# Altium footprint library Button_Switch_THT.PcbLib: 106 footprints (part 3 of 7)
Each footprint in its own frame and in the unit in brackets; x right, y up, seen from the top. Pads: shape width x height; smd on the part's side, far side on the other; paste and mask are expansions set on the pad; w line width, h text height; cw(c..) or ccw(c..) is an arc to the next point about the centre after c.
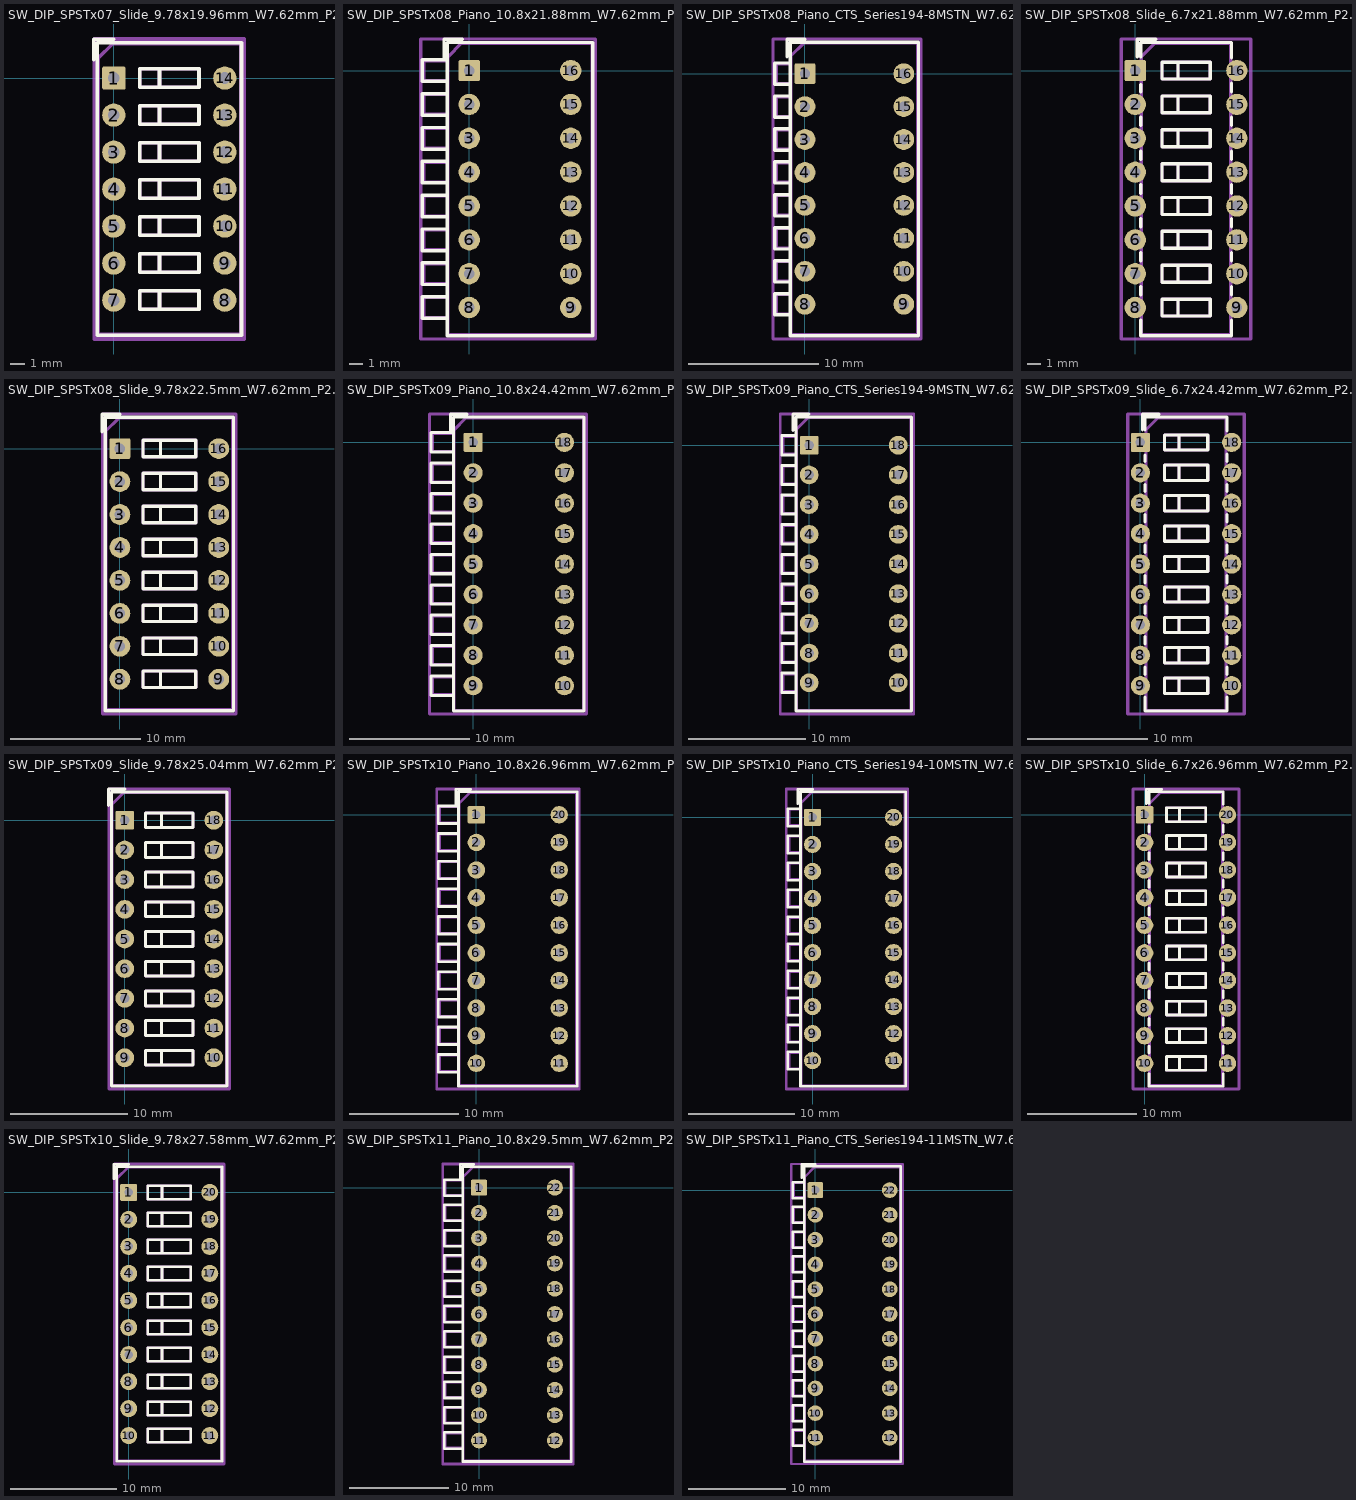
[diagram p2: the footprints below, top view; thin cyan lines are the x and y axes]

## SW_DIP_SPSTx07_Slide_9.78x19.96mm_W7.62mm_P2.54mm [mm]
pads (14):
  rrect16% 1.6x1.6 hole 0.8: 1(0,0)
  round 1.6 hole 0.8: 2(0,-2.54) 3(0,-5.08) 4(0,-7.62) 5(0,-10.16) 6(0,-12.7) 7(0,-15.24) 8(7.62,-15.24) 9(7.62,-12.7) 10(7.62,-10.16) 11(7.62,-7.62) 12(7.62,-5.08) 13(7.62,-2.54) 14(7.62,0)
F.SilkS:
  lines w0.254: -1.38,1.277 -1.38,2.66 0.003,2.66 ; 1.78,-15.875 1.78,-14.605 ; 1.78,-15.875 3.133,-15.875 ; 1.78,-15.875 1.78,-14.605 ; 1.78,-15.875 5.84,-15.875 5.84,-14.605 1.78,-14.605 ; 1.78,-14.605 3.133,-14.605 ; 1.78,-13.335 1.78,-12.065 ; 1.78,-13.335 3.133,-13.335 ; 1.78,-13.335 1.78,-12.065 ; 1.78,-13.335 5.84,-13.335 5.84,-12.065 1.78,-12.065 ; 1.78,-12.065 3.133,-12.065 ; 1.78,-10.795 1.78,-9.525 ; 1.78,-10.795 3.133,-10.795 ; 1.78,-10.795 1.78,-9.525 ; 1.78,-10.795 5.84,-10.795 5.84,-9.525 1.78,-9.525 ; 1.78,-9.525 3.133,-9.525 ; 1.78,-8.255 1.78,-6.985 ; 1.78,-8.255 3.133,-8.255 ; 1.78,-8.255 1.78,-6.985 ; 1.78,-8.255 5.84,-8.255 5.84,-6.985 1.78,-6.985 ; 1.78,-6.985 3.133,-6.985 ; 1.78,-5.715 1.78,-4.445 ; 1.78,-5.715 3.133,-5.715 ; 1.78,-5.715 1.78,-4.445 ; 1.78,-5.715 5.84,-5.715 5.84,-4.445 1.78,-4.445 ; 1.78,-4.445 3.133,-4.445 ; 1.78,-3.175 1.78,-1.905 ; 1.78,-3.175 3.133,-3.175 ; 1.78,-3.175 1.78,-1.905 ; 1.78,-3.175 5.84,-3.175 5.84,-1.905 1.78,-1.905 ; 1.78,-1.905 3.133,-1.905 ; 1.78,-0.635 1.78,0.635 ; 1.78,-0.635 3.133,-0.635 ; 1.78,-0.635 1.78,0.635 ; 1.78,-0.635 5.84,-0.635 5.84,0.635 1.78,0.635 ; 1.78,0.635 3.133,0.635 ; 3.133,-15.875 3.133,-14.605 ; 3.133,-15.875 3.133,-14.605 ; 3.133,-13.335 3.133,-12.065 ; 3.133,-13.335 3.133,-12.065 ; 3.133,-10.795 3.133,-9.525 ; 3.133,-10.795 3.133,-9.525 ; 3.133,-8.255 3.133,-6.985 ; 3.133,-8.255 3.133,-6.985 ; 3.133,-5.715 3.133,-4.445 ; 3.133,-5.715 3.133,-4.445 ; 3.133,-3.175 3.133,-1.905 ; 3.133,-3.175 3.133,-1.905 ; 3.133,-0.635 3.133,0.635 ; 3.133,-0.635 3.133,0.635 ; -1.14,-17.66 -1.14,2.42 8.76,2.42 8.76,-17.66 -1.14,-17.66
F.Fab:
  lines w0.254: 1.78,-15.875 1.78,-14.605 ; 1.78,-15.875 3.133,-15.875 ; 1.78,-15.875 1.78,-14.605 ; 1.78,-15.875 5.84,-15.875 5.84,-14.605 1.78,-14.605 ; 1.78,-14.605 3.133,-14.605 ; 1.78,-13.335 1.78,-12.065 ; 1.78,-13.335 3.133,-13.335 ; 1.78,-13.335 1.78,-12.065 ; 1.78,-13.335 5.84,-13.335 5.84,-12.065 1.78,-12.065 ; 1.78,-12.065 3.133,-12.065 ; 1.78,-10.795 1.78,-9.525 ; 1.78,-10.795 3.133,-10.795 ; 1.78,-10.795 1.78,-9.525 ; 1.78,-10.795 5.84,-10.795 5.84,-9.525 1.78,-9.525 ; 1.78,-9.525 3.133,-9.525 ; 1.78,-8.255 1.78,-6.985 ; 1.78,-8.255 3.133,-8.255 ; 1.78,-8.255 1.78,-6.985 ; 1.78,-8.255 5.84,-8.255 5.84,-6.985 1.78,-6.985 ; 1.78,-6.985 3.133,-6.985 ; 1.78,-5.715 1.78,-4.445 ; 1.78,-5.715 3.133,-5.715 ; 1.78,-5.715 1.78,-4.445 ; 1.78,-5.715 5.84,-5.715 5.84,-4.445 1.78,-4.445 ; 1.78,-4.445 3.133,-4.445 ; 1.78,-3.175 1.78,-1.905 ; 1.78,-3.175 3.133,-3.175 ; 1.78,-3.175 1.78,-1.905 ; 1.78,-3.175 5.84,-3.175 5.84,-1.905 1.78,-1.905 ; 1.78,-1.905 3.133,-1.905 ; 1.78,-0.635 1.78,0.635 ; 1.78,-0.635 3.133,-0.635 ; 1.78,-0.635 1.78,0.635 ; 1.78,-0.635 5.84,-0.635 5.84,0.635 1.78,0.635 ; 1.78,0.635 3.133,0.635 ; 3.133,-15.875 3.133,-14.605 ; 3.133,-15.875 3.133,-14.605 ; 3.133,-13.335 3.133,-12.065 ; 3.133,-13.335 3.133,-12.065 ; 3.133,-10.795 3.133,-9.525 ; 3.133,-10.795 3.133,-9.525 ; 3.133,-8.255 3.133,-6.985 ; 3.133,-8.255 3.133,-6.985 ; 3.133,-5.715 3.133,-4.445 ; 3.133,-5.715 3.133,-4.445 ; 3.133,-3.175 3.133,-1.905 ; 3.133,-3.175 3.133,-1.905 ; 3.133,-0.635 3.133,0.635 ; 3.133,-0.635 3.133,0.635 ; -1.08,-17.6 -1.08,1.36 -0.08,2.36 8.7,2.36 8.7,-17.6 -1.08,-17.6
  text "'.Designator'" at 7.942,-10.857 h0.8
  text "on" at 4.7,1.111 h0.8
F.CrtYd:
  lines w0.254: -1.33,-17.91 -1.33,2.68 8.95,2.68 8.95,-17.91 -1.33,-17.91

## SW_DIP_SPSTx08_Piano_10.8x21.88mm_W7.62mm_P2.54mm [mm]
pads (16):
  rrect16% 1.6x1.6 hole 0.8: 1(0,0)
  round 1.6 hole 0.8: 2(0,-2.54) 3(0,-5.08) 4(0,-7.62) 5(0,-10.16) 6(0,-12.7) 7(0,-15.24) 8(0,-17.78) 9(7.62,-17.78) 10(7.62,-15.24) 11(7.62,-12.7) 12(7.62,-10.16) 13(7.62,-7.62) 14(7.62,-5.08) 15(7.62,-2.54) 16(7.62,0)
F.SilkS:
  lines w0.254: -1.89,0.967 -1.89,2.35 -0.507,2.35 ; -3.51,-18.59 -3.51,-16.97 -1.65,-16.97 -1.65,-18.59 -3.51,-18.59 ; -3.51,-16.05 -3.51,-14.43 -1.65,-14.43 -1.65,-16.05 -3.51,-16.05 ; -3.51,-13.51 -3.51,-11.89 -1.65,-11.89 -1.65,-13.51 -3.51,-13.51 ; -3.51,-10.97 -3.51,-9.35 -1.65,-9.35 -1.65,-10.97 -3.51,-10.97 ; -3.51,-8.43 -3.51,-6.81 -1.65,-6.81 -1.65,-8.43 -3.51,-8.43 ; -3.51,-5.89 -3.51,-4.27 -1.65,-4.27 -1.65,-5.89 -3.51,-5.89 ; -3.51,-3.35 -3.51,-1.73 -1.65,-1.73 -1.65,-3.35 -3.51,-3.35 ; -3.51,-0.81 -3.51,0.81 -1.65,0.81 -1.65,-0.81 -3.51,-0.81 ; -1.65,-19.89 -1.65,2.11 9.27,2.11 9.27,-19.89 -1.65,-19.89
F.Fab:
  lines w0.254: -3.39,-18.53 -3.39,-17.03 -1.59,-17.03 -1.59,-18.53 -3.39,-18.53 ; -3.39,-15.99 -3.39,-14.49 -1.59,-14.49 -1.59,-15.99 -3.39,-15.99 ; -3.39,-13.45 -3.39,-11.95 -1.59,-11.95 -1.59,-13.45 -3.39,-13.45 ; -3.39,-10.91 -3.39,-9.41 -1.59,-9.41 -1.59,-10.91 -3.39,-10.91 ; -3.39,-8.37 -3.39,-6.87 -1.59,-6.87 -1.59,-8.37 -3.39,-8.37 ; -3.39,-5.83 -3.39,-4.33 -1.59,-4.33 -1.59,-5.83 -3.39,-5.83 ; -3.39,-3.29 -3.39,-1.79 -1.59,-1.79 -1.59,-3.29 -3.39,-3.29 ; -3.39,-0.75 -3.39,0.75 -1.59,0.75 -1.59,-0.75 -3.39,-0.75 ; -1.59,-19.83 -1.59,1.05 -0.59,2.05 9.21,2.05 9.21,-19.83 -1.59,-19.83
  text "'.Designator'" at 0.573,-9.562 h0.8
F.CrtYd:
  lines w0.254: -3.65,-20.14 -3.65,2.37 9.47,2.37 9.47,-20.14 -3.65,-20.14

## SW_DIP_SPSTx08_Piano_CTS_Series194-8MSTN_W7.62mm_P2.54mm [mm]
pads (16):
  rrect16% 1.6x1.6 hole 0.8: 1(0,0)
  round 1.6 hole 0.8: 2(0,-2.54) 3(0,-5.08) 4(0,-7.62) 5(0,-10.16) 6(0,-12.7) 7(0,-15.24) 8(0,-17.78) 9(7.62,-17.78) 10(7.62,-15.24) 11(7.62,-12.7) 12(7.62,-10.16) 13(7.62,-7.62) 14(7.62,-5.08) 15(7.62,-2.54) 16(7.62,0)
F.SilkS:
  lines w0.254: -1.38,1.277 -1.38,2.66 0.003,2.66 ; -2.34,-18.6 -2.34,-16.96 -1.14,-16.96 -1.14,-18.6 -2.34,-18.6 ; -2.34,-16.06 -2.34,-14.42 -1.14,-14.42 -1.14,-16.06 -2.34,-16.06 ; -2.34,-13.52 -2.34,-11.88 -1.14,-11.88 -1.14,-13.52 -2.34,-13.52 ; -2.34,-10.98 -2.34,-9.34 -1.14,-9.34 -1.14,-10.98 -2.34,-10.98 ; -2.34,-8.44 -2.34,-6.8 -1.14,-6.8 -1.14,-8.44 -2.34,-8.44 ; -2.34,-5.9 -2.34,-4.26 -1.14,-4.26 -1.14,-5.9 -2.34,-5.9 ; -2.34,-3.36 -2.34,-1.72 -1.14,-1.72 -1.14,-3.36 -2.34,-3.36 ; -2.34,-0.82 -2.34,0.82 -1.14,0.82 -1.14,-0.82 -2.34,-0.82 ; -1.14,-20.2 -1.14,2.42 8.76,2.42 8.76,-20.2 -1.14,-20.2
F.Fab:
  lines w0.254: -2.22,-18.54 -2.22,-17.02 -1.08,-17.02 -1.08,-18.54 -2.22,-18.54 ; -2.22,-16 -2.22,-14.48 -1.08,-14.48 -1.08,-16 -2.22,-16 ; -2.22,-13.46 -2.22,-11.94 -1.08,-11.94 -1.08,-13.46 -2.22,-13.46 ; -2.22,-10.92 -2.22,-9.4 -1.08,-9.4 -1.08,-10.92 -2.22,-10.92 ; -2.22,-8.38 -2.22,-6.86 -1.08,-6.86 -1.08,-8.38 -2.22,-8.38 ; -2.22,-5.84 -2.22,-4.32 -1.08,-4.32 -1.08,-5.84 -2.22,-5.84 ; -2.22,-3.3 -2.22,-1.78 -1.08,-1.78 -1.08,-3.3 -2.22,-3.3 ; -2.22,-0.76 -2.22,0.76 -1.08,0.76 -1.08,-0.76 -2.22,-0.76 ; -1.08,-20.14 -1.08,1.36 -0.08,2.36 8.7,2.36 8.7,-20.14 -1.08,-20.14
  text "'.Designator'" at 0.573,-9.562 h0.8
F.CrtYd:
  lines w0.254: -2.47,-20.46 -2.47,2.67 8.95,2.67 8.95,-20.46 -2.47,-20.46

## SW_DIP_SPSTx08_Slide_6.7x21.88mm_W7.62mm_P2.54mm_LowProfile [mm]
pads (16):
  rrect16% 1.6x1.6 hole 0.8: 1(0,0)
  round 1.6 hole 0.8: 2(0,-2.54) 3(0,-5.08) 4(0,-7.62) 5(0,-10.16) 6(0,-12.7) 7(0,-15.24) 8(0,-17.78) 9(7.62,-17.78) 10(7.62,-15.24) 11(7.62,-12.7) 12(7.62,-10.16) 13(7.62,-7.62) 14(7.62,-5.08) 15(7.62,-2.54) 16(7.62,0)
F.SilkS:
  lines w0.254: 0.16,1.04 0.16,2.35 1.543,2.35 ; 0.4,-18.74 0.4,-19.89 7.22,-19.89 7.22,-18.74 ; 0.4,-16.82 0.4,-16.2 ; 0.4,-14.28 0.4,-13.66 ; 0.4,-11.74 0.4,-11.12 ; 0.4,-9.2 0.4,-8.58 ; 0.4,-6.66 0.4,-6.04 ; 0.4,-4.12 0.4,-3.5 ; 0.4,-1.58 0.4,-1.04 ; 0.4,1.04 0.4,2.11 7.22,2.11 7.22,0.96 ; 7.22,-16.82 7.22,-16.2 ; 7.22,-14.28 7.22,-13.66 ; 7.22,-11.74 7.22,-11.12 ; 7.22,-9.2 7.22,-8.58 ; 7.22,-6.66 7.22,-6.04 ; 7.22,-4.12 7.22,-3.5 ; 7.22,-1.58 7.22,-0.96 ; 2,-18.415 2,-17.145 ; 2,-18.415 3.207,-18.415 ; 2,-18.415 2,-17.145 ; 2,-18.415 5.62,-18.415 5.62,-17.145 2,-17.145 ; 2,-17.145 3.207,-17.145 ; 2,-15.875 2,-14.605 ; 2,-15.875 3.207,-15.875 ; 2,-15.875 2,-14.605 ; 2,-15.875 5.62,-15.875 5.62,-14.605 2,-14.605 ; 2,-14.605 3.207,-14.605 ; 2,-13.335 2,-12.065 ; 2,-13.335 3.207,-13.335 ; 2,-13.335 2,-12.065 ; 2,-13.335 5.62,-13.335 5.62,-12.065 2,-12.065 ; 2,-12.065 3.207,-12.065 ; 2,-10.795 2,-9.525 ; 2,-10.795 3.207,-10.795 ; 2,-10.795 2,-9.525 ; 2,-10.795 5.62,-10.795 5.62,-9.525 2,-9.525 ; 2,-9.525 3.207,-9.525 ; 2,-8.255 2,-6.985 ; 2,-8.255 3.207,-8.255 ; 2,-8.255 2,-6.985 ; 2,-8.255 5.62,-8.255 5.62,-6.985 2,-6.985 ; 2,-6.985 3.207,-6.985 ; 2,-5.715 2,-4.445 ; 2,-5.715 3.207,-5.715 ; 2,-5.715 2,-4.445 ; 2,-5.715 5.62,-5.715 5.62,-4.445 2,-4.445 ; 2,-4.445 3.207,-4.445 ; 2,-3.175 2,-1.905 ; 2,-3.175 3.207,-3.175 ; 2,-3.175 2,-1.905 ; 2,-3.175 5.62,-3.175 5.62,-1.905 2,-1.905 ; 2,-1.905 3.207,-1.905 ; 2,-0.635 2,0.635 ; 2,-0.635 3.207,-0.635 ; 2,-0.635 2,0.635 ; 2,-0.635 5.62,-0.635 5.62,0.635 2,0.635 ; 2,0.635 3.207,0.635 ; 3.207,-18.415 3.207,-17.145 ; 3.207,-18.415 3.207,-17.145 ; 3.207,-15.875 3.207,-14.605 ; 3.207,-15.875 3.207,-14.605 ; 3.207,-13.335 3.207,-12.065 ; 3.207,-13.335 3.207,-12.065 ; 3.207,-10.795 3.207,-9.525 ; 3.207,-10.795 3.207,-9.525 ; 3.207,-8.255 3.207,-6.985 ; 3.207,-8.255 3.207,-6.985 ; 3.207,-5.715 3.207,-4.445 ; 3.207,-5.715 3.207,-4.445 ; 3.207,-3.175 3.207,-1.905 ; 3.207,-3.175 3.207,-1.905 ; 3.207,-0.635 3.207,0.635 ; 3.207,-0.635 3.207,0.635
F.Fab:
  lines w0.254: 2,-18.415 2,-17.145 ; 2,-18.415 3.207,-18.415 ; 2,-18.415 2,-17.145 ; 2,-18.415 5.62,-18.415 5.62,-17.145 2,-17.145 ; 2,-17.145 3.207,-17.145 ; 2,-15.875 2,-14.605 ; 2,-15.875 3.207,-15.875 ; 2,-15.875 2,-14.605 ; 2,-15.875 5.62,-15.875 5.62,-14.605 2,-14.605 ; 2,-14.605 3.207,-14.605 ; 2,-13.335 2,-12.065 ; 2,-13.335 3.207,-13.335 ; 2,-13.335 2,-12.065 ; 2,-13.335 5.62,-13.335 5.62,-12.065 2,-12.065 ; 2,-12.065 3.207,-12.065 ; 2,-10.795 2,-9.525 ; 2,-10.795 3.207,-10.795 ; 2,-10.795 2,-9.525 ; 2,-10.795 5.62,-10.795 5.62,-9.525 2,-9.525 ; 2,-9.525 3.207,-9.525 ; 2,-8.255 2,-6.985 ; 2,-8.255 3.207,-8.255 ; 2,-8.255 2,-6.985 ; 2,-8.255 5.62,-8.255 5.62,-6.985 2,-6.985 ; 2,-6.985 3.207,-6.985 ; 2,-5.715 2,-4.445 ; 2,-5.715 3.207,-5.715 ; 2,-5.715 2,-4.445 ; 2,-5.715 5.62,-5.715 5.62,-4.445 2,-4.445 ; 2,-4.445 3.207,-4.445 ; 2,-3.175 2,-1.905 ; 2,-3.175 3.207,-3.175 ; 2,-3.175 2,-1.905 ; 2,-3.175 5.62,-3.175 5.62,-1.905 2,-1.905 ; 2,-1.905 3.207,-1.905 ; 2,-0.635 2,0.635 ; 2,-0.635 3.207,-0.635 ; 2,-0.635 2,0.635 ; 2,-0.635 5.62,-0.635 5.62,0.635 2,0.635 ; 2,0.635 3.207,0.635 ; 3.207,-18.415 3.207,-17.145 ; 3.207,-18.415 3.207,-17.145 ; 3.207,-15.875 3.207,-14.605 ; 3.207,-15.875 3.207,-14.605 ; 3.207,-13.335 3.207,-12.065 ; 3.207,-13.335 3.207,-12.065 ; 3.207,-10.795 3.207,-9.525 ; 3.207,-10.795 3.207,-9.525 ; 3.207,-8.255 3.207,-6.985 ; 3.207,-8.255 3.207,-6.985 ; 3.207,-5.715 3.207,-4.445 ; 3.207,-5.715 3.207,-4.445 ; 3.207,-3.175 3.207,-1.905 ; 3.207,-3.175 3.207,-1.905 ; 3.207,-0.635 3.207,0.635 ; 3.207,-0.635 3.207,0.635 ; 0.46,-19.83 0.46,1.05 1.46,2.05 7.16,2.05 7.16,-19.83 0.46,-19.83
  text "'.Designator'" at 7.062,-12.127 h0.8
  text "on" at 3.82,0.956 h0.8
F.CrtYd:
  lines w0.254: -1.06,-20.14 -1.06,2.37 8.67,2.37 8.67,-20.14 -1.06,-20.14

## SW_DIP_SPSTx08_Slide_9.78x22.5mm_W7.62mm_P2.54mm [mm]
pads (16):
  rrect16% 1.6x1.6 hole 0.8: 1(0,0)
  round 1.6 hole 0.8: 2(0,-2.54) 3(0,-5.08) 4(0,-7.62) 5(0,-10.16) 6(0,-12.7) 7(0,-15.24) 8(0,-17.78) 9(7.62,-17.78) 10(7.62,-15.24) 11(7.62,-12.7) 12(7.62,-10.16) 13(7.62,-7.62) 14(7.62,-5.08) 15(7.62,-2.54) 16(7.62,0)
F.SilkS:
  lines w0.254: -1.38,1.277 -1.38,2.66 0.003,2.66 ; 1.78,-18.415 1.78,-17.145 ; 1.78,-18.415 3.133,-18.415 ; 1.78,-18.415 1.78,-17.145 ; 1.78,-18.415 5.84,-18.415 5.84,-17.145 1.78,-17.145 ; 1.78,-17.145 3.133,-17.145 ; 1.78,-15.875 1.78,-14.605 ; 1.78,-15.875 3.133,-15.875 ; 1.78,-15.875 1.78,-14.605 ; 1.78,-15.875 5.84,-15.875 5.84,-14.605 1.78,-14.605 ; 1.78,-14.605 3.133,-14.605 ; 1.78,-13.335 1.78,-12.065 ; 1.78,-13.335 3.133,-13.335 ; 1.78,-13.335 1.78,-12.065 ; 1.78,-13.335 5.84,-13.335 5.84,-12.065 1.78,-12.065 ; 1.78,-12.065 3.133,-12.065 ; 1.78,-10.795 1.78,-9.525 ; 1.78,-10.795 3.133,-10.795 ; 1.78,-10.795 1.78,-9.525 ; 1.78,-10.795 5.84,-10.795 5.84,-9.525 1.78,-9.525 ; 1.78,-9.525 3.133,-9.525 ; 1.78,-8.255 1.78,-6.985 ; 1.78,-8.255 3.133,-8.255 ; 1.78,-8.255 1.78,-6.985 ; 1.78,-8.255 5.84,-8.255 5.84,-6.985 1.78,-6.985 ; 1.78,-6.985 3.133,-6.985 ; 1.78,-5.715 1.78,-4.445 ; 1.78,-5.715 3.133,-5.715 ; 1.78,-5.715 1.78,-4.445 ; 1.78,-5.715 5.84,-5.715 5.84,-4.445 1.78,-4.445 ; 1.78,-4.445 3.133,-4.445 ; 1.78,-3.175 1.78,-1.905 ; 1.78,-3.175 3.133,-3.175 ; 1.78,-3.175 1.78,-1.905 ; 1.78,-3.175 5.84,-3.175 5.84,-1.905 1.78,-1.905 ; 1.78,-1.905 3.133,-1.905 ; 1.78,-0.635 1.78,0.635 ; 1.78,-0.635 3.133,-0.635 ; 1.78,-0.635 1.78,0.635 ; 1.78,-0.635 5.84,-0.635 5.84,0.635 1.78,0.635 ; 1.78,0.635 3.133,0.635 ; 3.133,-18.415 3.133,-17.145 ; 3.133,-18.415 3.133,-17.145 ; 3.133,-15.875 3.133,-14.605 ; 3.133,-15.875 3.133,-14.605 ; 3.133,-13.335 3.133,-12.065 ; 3.133,-13.335 3.133,-12.065 ; 3.133,-10.795 3.133,-9.525 ; 3.133,-10.795 3.133,-9.525 ; 3.133,-8.255 3.133,-6.985 ; 3.133,-8.255 3.133,-6.985 ; 3.133,-5.715 3.133,-4.445 ; 3.133,-5.715 3.133,-4.445 ; 3.133,-3.175 3.133,-1.905 ; 3.133,-3.175 3.133,-1.905 ; 3.133,-0.635 3.133,0.635 ; 3.133,-0.635 3.133,0.635 ; -1.14,-20.2 -1.14,2.42 8.76,2.42 8.76,-20.2 -1.14,-20.2
F.Fab:
  lines w0.254: 1.78,-18.415 1.78,-17.145 ; 1.78,-18.415 3.133,-18.415 ; 1.78,-18.415 1.78,-17.145 ; 1.78,-18.415 5.84,-18.415 5.84,-17.145 1.78,-17.145 ; 1.78,-17.145 3.133,-17.145 ; 1.78,-15.875 1.78,-14.605 ; 1.78,-15.875 3.133,-15.875 ; 1.78,-15.875 1.78,-14.605 ; 1.78,-15.875 5.84,-15.875 5.84,-14.605 1.78,-14.605 ; 1.78,-14.605 3.133,-14.605 ; 1.78,-13.335 1.78,-12.065 ; 1.78,-13.335 3.133,-13.335 ; 1.78,-13.335 1.78,-12.065 ; 1.78,-13.335 5.84,-13.335 5.84,-12.065 1.78,-12.065 ; 1.78,-12.065 3.133,-12.065 ; 1.78,-10.795 1.78,-9.525 ; 1.78,-10.795 3.133,-10.795 ; 1.78,-10.795 1.78,-9.525 ; 1.78,-10.795 5.84,-10.795 5.84,-9.525 1.78,-9.525 ; 1.78,-9.525 3.133,-9.525 ; 1.78,-8.255 1.78,-6.985 ; 1.78,-8.255 3.133,-8.255 ; 1.78,-8.255 1.78,-6.985 ; 1.78,-8.255 5.84,-8.255 5.84,-6.985 1.78,-6.985 ; 1.78,-6.985 3.133,-6.985 ; 1.78,-5.715 1.78,-4.445 ; 1.78,-5.715 3.133,-5.715 ; 1.78,-5.715 1.78,-4.445 ; 1.78,-5.715 5.84,-5.715 5.84,-4.445 1.78,-4.445 ; 1.78,-4.445 3.133,-4.445 ; 1.78,-3.175 1.78,-1.905 ; 1.78,-3.175 3.133,-3.175 ; 1.78,-3.175 1.78,-1.905 ; 1.78,-3.175 5.84,-3.175 5.84,-1.905 1.78,-1.905 ; 1.78,-1.905 3.133,-1.905 ; 1.78,-0.635 1.78,0.635 ; 1.78,-0.635 3.133,-0.635 ; 1.78,-0.635 1.78,0.635 ; 1.78,-0.635 5.84,-0.635 5.84,0.635 1.78,0.635 ; 1.78,0.635 3.133,0.635 ; 3.133,-18.415 3.133,-17.145 ; 3.133,-18.415 3.133,-17.145 ; 3.133,-15.875 3.133,-14.605 ; 3.133,-15.875 3.133,-14.605 ; 3.133,-13.335 3.133,-12.065 ; 3.133,-13.335 3.133,-12.065 ; 3.133,-10.795 3.133,-9.525 ; 3.133,-10.795 3.133,-9.525 ; 3.133,-8.255 3.133,-6.985 ; 3.133,-8.255 3.133,-6.985 ; 3.133,-5.715 3.133,-4.445 ; 3.133,-5.715 3.133,-4.445 ; 3.133,-3.175 3.133,-1.905 ; 3.133,-3.175 3.133,-1.905 ; 3.133,-0.635 3.133,0.635 ; 3.133,-0.635 3.133,0.635 ; -1.08,-20.14 -1.08,1.36 -0.08,2.36 8.7,2.36 8.7,-20.14 -1.08,-20.14
  text "'.Designator'" at 7.942,-12.127 h0.8
  text "on" at 4.7,1.111 h0.8
F.CrtYd:
  lines w0.254: -1.33,-20.46 -1.33,2.67 8.95,2.67 8.95,-20.46 -1.33,-20.46

## SW_DIP_SPSTx09_Piano_10.8x24.42mm_W7.62mm_P2.54mm [mm]
pads (18):
  rrect16% 1.6x1.6 hole 0.8: 1(0,0)
  round 1.6 hole 0.8: 2(0,-2.54) 3(0,-5.08) 4(0,-7.62) 5(0,-10.16) 6(0,-12.7) 7(0,-15.24) 8(0,-17.78) 9(0,-20.32) 10(7.62,-20.32) 11(7.62,-17.78) 12(7.62,-15.24) 13(7.62,-12.7) 14(7.62,-10.16) 15(7.62,-7.62) 16(7.62,-5.08) 17(7.62,-2.54) 18(7.62,0)
F.SilkS:
  lines w0.254: -1.89,0.967 -1.89,2.35 -0.507,2.35 ; -3.51,-21.13 -3.51,-19.51 -1.65,-19.51 -1.65,-21.13 -3.51,-21.13 ; -3.51,-18.59 -3.51,-16.97 -1.65,-16.97 -1.65,-18.59 -3.51,-18.59 ; -3.51,-16.05 -3.51,-14.43 -1.65,-14.43 -1.65,-16.05 -3.51,-16.05 ; -3.51,-13.51 -3.51,-11.89 -1.65,-11.89 -1.65,-13.51 -3.51,-13.51 ; -3.51,-10.97 -3.51,-9.35 -1.65,-9.35 -1.65,-10.97 -3.51,-10.97 ; -3.51,-8.43 -3.51,-6.81 -1.65,-6.81 -1.65,-8.43 -3.51,-8.43 ; -3.51,-5.89 -3.51,-4.27 -1.65,-4.27 -1.65,-5.89 -3.51,-5.89 ; -3.51,-3.35 -3.51,-1.73 -1.65,-1.73 -1.65,-3.35 -3.51,-3.35 ; -3.51,-0.81 -3.51,0.81 -1.65,0.81 -1.65,-0.81 -3.51,-0.81 ; -1.65,-22.43 -1.65,2.11 9.27,2.11 9.27,-22.43 -1.65,-22.43
F.Fab:
  lines w0.254: -3.39,-21.07 -3.39,-19.57 -1.59,-19.57 -1.59,-21.07 -3.39,-21.07 ; -3.39,-18.53 -3.39,-17.03 -1.59,-17.03 -1.59,-18.53 -3.39,-18.53 ; -3.39,-15.99 -3.39,-14.49 -1.59,-14.49 -1.59,-15.99 -3.39,-15.99 ; -3.39,-13.45 -3.39,-11.95 -1.59,-11.95 -1.59,-13.45 -3.39,-13.45 ; -3.39,-10.91 -3.39,-9.41 -1.59,-9.41 -1.59,-10.91 -3.39,-10.91 ; -3.39,-8.37 -3.39,-6.87 -1.59,-6.87 -1.59,-8.37 -3.39,-8.37 ; -3.39,-5.83 -3.39,-4.33 -1.59,-4.33 -1.59,-5.83 -3.39,-5.83 ; -3.39,-3.29 -3.39,-1.79 -1.59,-1.79 -1.59,-3.29 -3.39,-3.29 ; -3.39,-0.75 -3.39,0.75 -1.59,0.75 -1.59,-0.75 -3.39,-0.75 ; -1.59,-22.37 -1.59,1.05 -0.59,2.05 9.21,2.05 9.21,-22.37 -1.59,-22.37
  text "'.Designator'" at 0.573,-10.832 h0.8
F.CrtYd:
  lines w0.254: -3.65,-22.68 -3.65,2.37 9.47,2.37 9.47,-22.68 -3.65,-22.68

## SW_DIP_SPSTx09_Piano_CTS_Series194-9MSTN_W7.62mm_P2.54mm [mm]
pads (18):
  rrect16% 1.6x1.6 hole 0.8: 1(0,0)
  round 1.6 hole 0.8: 2(0,-2.54) 3(0,-5.08) 4(0,-7.62) 5(0,-10.16) 6(0,-12.7) 7(0,-15.24) 8(0,-17.78) 9(0,-20.32) 10(7.62,-20.32) 11(7.62,-17.78) 12(7.62,-15.24) 13(7.62,-12.7) 14(7.62,-10.16) 15(7.62,-7.62) 16(7.62,-5.08) 17(7.62,-2.54) 18(7.62,0)
F.SilkS:
  lines w0.254: -1.38,1.277 -1.38,2.66 0.003,2.66 ; -2.34,-21.14 -2.34,-19.5 -1.14,-19.5 -1.14,-21.14 -2.34,-21.14 ; -2.34,-18.6 -2.34,-16.96 -1.14,-16.96 -1.14,-18.6 -2.34,-18.6 ; -2.34,-16.06 -2.34,-14.42 -1.14,-14.42 -1.14,-16.06 -2.34,-16.06 ; -2.34,-13.52 -2.34,-11.88 -1.14,-11.88 -1.14,-13.52 -2.34,-13.52 ; -2.34,-10.98 -2.34,-9.34 -1.14,-9.34 -1.14,-10.98 -2.34,-10.98 ; -2.34,-8.44 -2.34,-6.8 -1.14,-6.8 -1.14,-8.44 -2.34,-8.44 ; -2.34,-5.9 -2.34,-4.26 -1.14,-4.26 -1.14,-5.9 -2.34,-5.9 ; -2.34,-3.36 -2.34,-1.72 -1.14,-1.72 -1.14,-3.36 -2.34,-3.36 ; -2.34,-0.82 -2.34,0.82 -1.14,0.82 -1.14,-0.82 -2.34,-0.82 ; -1.14,-22.74 -1.14,2.42 8.76,2.42 8.76,-22.74 -1.14,-22.74
F.Fab:
  lines w0.254: -2.22,-21.08 -2.22,-19.56 -1.08,-19.56 -1.08,-21.08 -2.22,-21.08 ; -2.22,-18.54 -2.22,-17.02 -1.08,-17.02 -1.08,-18.54 -2.22,-18.54 ; -2.22,-16 -2.22,-14.48 -1.08,-14.48 -1.08,-16 -2.22,-16 ; -2.22,-13.46 -2.22,-11.94 -1.08,-11.94 -1.08,-13.46 -2.22,-13.46 ; -2.22,-10.92 -2.22,-9.4 -1.08,-9.4 -1.08,-10.92 -2.22,-10.92 ; -2.22,-8.38 -2.22,-6.86 -1.08,-6.86 -1.08,-8.38 -2.22,-8.38 ; -2.22,-5.84 -2.22,-4.32 -1.08,-4.32 -1.08,-5.84 -2.22,-5.84 ; -2.22,-3.3 -2.22,-1.78 -1.08,-1.78 -1.08,-3.3 -2.22,-3.3 ; -2.22,-0.76 -2.22,0.76 -1.08,0.76 -1.08,-0.76 -2.22,-0.76 ; -1.08,-22.68 -1.08,1.36 -0.08,2.36 8.7,2.36 8.7,-22.68 -1.08,-22.68
  text "'.Designator'" at 0.573,-10.832 h0.8
F.CrtYd:
  lines w0.254: -2.47,-22.99 -2.47,2.67 8.95,2.67 8.95,-22.99 -2.47,-22.99

## SW_DIP_SPSTx09_Slide_6.7x24.42mm_W7.62mm_P2.54mm_LowProfile [mm]
pads (18):
  rrect16% 1.6x1.6 hole 0.8: 1(0,0)
  round 1.6 hole 0.8: 2(0,-2.54) 3(0,-5.08) 4(0,-7.62) 5(0,-10.16) 6(0,-12.7) 7(0,-15.24) 8(0,-17.78) 9(0,-20.32) 10(7.62,-20.32) 11(7.62,-17.78) 12(7.62,-15.24) 13(7.62,-12.7) 14(7.62,-10.16) 15(7.62,-7.62) 16(7.62,-5.08) 17(7.62,-2.54) 18(7.62,0)
F.SilkS:
  lines w0.254: 0.16,1.04 0.16,2.35 1.543,2.35 ; 0.4,-21.28 0.4,-22.43 7.22,-22.43 7.22,-21.28 ; 0.4,-19.36 0.4,-18.74 ; 0.4,-16.82 0.4,-16.2 ; 0.4,-14.28 0.4,-13.66 ; 0.4,-11.74 0.4,-11.12 ; 0.4,-9.2 0.4,-8.58 ; 0.4,-6.66 0.4,-6.04 ; 0.4,-4.12 0.4,-3.5 ; 0.4,-1.58 0.4,-1.04 ; 0.4,1.04 0.4,2.11 7.22,2.11 7.22,0.96 ; 7.22,-19.36 7.22,-18.74 ; 7.22,-16.82 7.22,-16.2 ; 7.22,-14.28 7.22,-13.66 ; 7.22,-11.74 7.22,-11.12 ; 7.22,-9.2 7.22,-8.58 ; 7.22,-6.66 7.22,-6.04 ; 7.22,-4.12 7.22,-3.5 ; 7.22,-1.58 7.22,-0.96 ; 2,-20.955 2,-19.685 ; 2,-20.955 3.207,-20.955 ; 2,-20.955 2,-19.685 ; 2,-20.955 5.62,-20.955 5.62,-19.685 2,-19.685 ; 2,-19.685 3.207,-19.685 ; 2,-18.415 2,-17.145 ; 2,-18.415 3.207,-18.415 ; 2,-18.415 2,-17.145 ; 2,-18.415 5.62,-18.415 5.62,-17.145 2,-17.145 ; 2,-17.145 3.207,-17.145 ; 2,-15.875 2,-14.605 ; 2,-15.875 3.207,-15.875 ; 2,-15.875 2,-14.605 ; 2,-15.875 5.62,-15.875 5.62,-14.605 2,-14.605 ; 2,-14.605 3.207,-14.605 ; 2,-13.335 2,-12.065 ; 2,-13.335 3.207,-13.335 ; 2,-13.335 2,-12.065 ; 2,-13.335 5.62,-13.335 5.62,-12.065 2,-12.065 ; 2,-12.065 3.207,-12.065 ; 2,-10.795 2,-9.525 ; 2,-10.795 3.207,-10.795 ; 2,-10.795 2,-9.525 ; 2,-10.795 5.62,-10.795 5.62,-9.525 2,-9.525 ; 2,-9.525 3.207,-9.525 ; 2,-8.255 2,-6.985 ; 2,-8.255 3.207,-8.255 ; 2,-8.255 2,-6.985 ; 2,-8.255 5.62,-8.255 5.62,-6.985 2,-6.985 ; 2,-6.985 3.207,-6.985 ; 2,-5.715 2,-4.445 ; 2,-5.715 3.207,-5.715 ; 2,-5.715 2,-4.445 ; 2,-5.715 5.62,-5.715 5.62,-4.445 2,-4.445 ; 2,-4.445 3.207,-4.445 ; 2,-3.175 2,-1.905 ; 2,-3.175 3.207,-3.175 ; 2,-3.175 2,-1.905 ; 2,-3.175 5.62,-3.175 5.62,-1.905 2,-1.905 ; 2,-1.905 3.207,-1.905 ; 2,-0.635 2,0.635 ; 2,-0.635 3.207,-0.635 ; 2,-0.635 2,0.635 ; 2,-0.635 5.62,-0.635 5.62,0.635 2,0.635 ; 2,0.635 3.207,0.635 ; 3.207,-20.955 3.207,-19.685 ; 3.207,-20.955 3.207,-19.685 ; 3.207,-18.415 3.207,-17.145 ; 3.207,-18.415 3.207,-17.145 ; 3.207,-15.875 3.207,-14.605 ; 3.207,-15.875 3.207,-14.605 ; 3.207,-13.335 3.207,-12.065 ; 3.207,-13.335 3.207,-12.065 ; 3.207,-10.795 3.207,-9.525 ; 3.207,-10.795 3.207,-9.525 ; 3.207,-8.255 3.207,-6.985 ; 3.207,-8.255 3.207,-6.985 ; 3.207,-5.715 3.207,-4.445 ; 3.207,-5.715 3.207,-4.445 ; 3.207,-3.175 3.207,-1.905 ; 3.207,-3.175 3.207,-1.905 ; 3.207,-0.635 3.207,0.635 ; 3.207,-0.635 3.207,0.635
F.Fab:
  lines w0.254: 2,-20.955 2,-19.685 ; 2,-20.955 3.207,-20.955 ; 2,-20.955 2,-19.685 ; 2,-20.955 5.62,-20.955 5.62,-19.685 2,-19.685 ; 2,-19.685 3.207,-19.685 ; 2,-18.415 2,-17.145 ; 2,-18.415 3.207,-18.415 ; 2,-18.415 2,-17.145 ; 2,-18.415 5.62,-18.415 5.62,-17.145 2,-17.145 ; 2,-17.145 3.207,-17.145 ; 2,-15.875 2,-14.605 ; 2,-15.875 3.207,-15.875 ; 2,-15.875 2,-14.605 ; 2,-15.875 5.62,-15.875 5.62,-14.605 2,-14.605 ; 2,-14.605 3.207,-14.605 ; 2,-13.335 2,-12.065 ; 2,-13.335 3.207,-13.335 ; 2,-13.335 2,-12.065 ; 2,-13.335 5.62,-13.335 5.62,-12.065 2,-12.065 ; 2,-12.065 3.207,-12.065 ; 2,-10.795 2,-9.525 ; 2,-10.795 3.207,-10.795 ; 2,-10.795 2,-9.525 ; 2,-10.795 5.62,-10.795 5.62,-9.525 2,-9.525 ; 2,-9.525 3.207,-9.525 ; 2,-8.255 2,-6.985 ; 2,-8.255 3.207,-8.255 ; 2,-8.255 2,-6.985 ; 2,-8.255 5.62,-8.255 5.62,-6.985 2,-6.985 ; 2,-6.985 3.207,-6.985 ; 2,-5.715 2,-4.445 ; 2,-5.715 3.207,-5.715 ; 2,-5.715 2,-4.445 ; 2,-5.715 5.62,-5.715 5.62,-4.445 2,-4.445 ; 2,-4.445 3.207,-4.445 ; 2,-3.175 2,-1.905 ; 2,-3.175 3.207,-3.175 ; 2,-3.175 2,-1.905 ; 2,-3.175 5.62,-3.175 5.62,-1.905 2,-1.905 ; 2,-1.905 3.207,-1.905 ; 2,-0.635 2,0.635 ; 2,-0.635 3.207,-0.635 ; 2,-0.635 2,0.635 ; 2,-0.635 5.62,-0.635 5.62,0.635 2,0.635 ; 2,0.635 3.207,0.635 ; 3.207,-20.955 3.207,-19.685 ; 3.207,-20.955 3.207,-19.685 ; 3.207,-18.415 3.207,-17.145 ; 3.207,-18.415 3.207,-17.145 ; 3.207,-15.875 3.207,-14.605 ; 3.207,-15.875 3.207,-14.605 ; 3.207,-13.335 3.207,-12.065 ; 3.207,-13.335 3.207,-12.065 ; 3.207,-10.795 3.207,-9.525 ; 3.207,-10.795 3.207,-9.525 ; 3.207,-8.255 3.207,-6.985 ; 3.207,-8.255 3.207,-6.985 ; 3.207,-5.715 3.207,-4.445 ; 3.207,-5.715 3.207,-4.445 ; 3.207,-3.175 3.207,-1.905 ; 3.207,-3.175 3.207,-1.905 ; 3.207,-0.635 3.207,0.635 ; 3.207,-0.635 3.207,0.635 ; 0.46,-22.37 0.46,1.05 1.46,2.05 7.16,2.05 7.16,-22.37 0.46,-22.37
  text "'.Designator'" at 7.062,-13.397 h0.8
  text "on" at 3.82,0.956 h0.8
F.CrtYd:
  lines w0.254: -1.06,-22.68 -1.06,2.37 8.67,2.37 8.67,-22.68 -1.06,-22.68

## SW_DIP_SPSTx09_Slide_9.78x25.04mm_W7.62mm_P2.54mm [mm]
pads (18):
  rrect16% 1.6x1.6 hole 0.8: 1(0,0)
  round 1.6 hole 0.8: 2(0,-2.54) 3(0,-5.08) 4(0,-7.62) 5(0,-10.16) 6(0,-12.7) 7(0,-15.24) 8(0,-17.78) 9(0,-20.32) 10(7.62,-20.32) 11(7.62,-17.78) 12(7.62,-15.24) 13(7.62,-12.7) 14(7.62,-10.16) 15(7.62,-7.62) 16(7.62,-5.08) 17(7.62,-2.54) 18(7.62,0)
F.SilkS:
  lines w0.254: -1.38,1.277 -1.38,2.66 0.003,2.66 ; 1.78,-20.955 1.78,-19.685 ; 1.78,-20.955 3.133,-20.955 ; 1.78,-20.955 1.78,-19.685 ; 1.78,-20.955 5.84,-20.955 5.84,-19.685 1.78,-19.685 ; 1.78,-19.685 3.133,-19.685 ; 1.78,-18.415 1.78,-17.145 ; 1.78,-18.415 3.133,-18.415 ; 1.78,-18.415 1.78,-17.145 ; 1.78,-18.415 5.84,-18.415 5.84,-17.145 1.78,-17.145 ; 1.78,-17.145 3.133,-17.145 ; 1.78,-15.875 1.78,-14.605 ; 1.78,-15.875 3.133,-15.875 ; 1.78,-15.875 1.78,-14.605 ; 1.78,-15.875 5.84,-15.875 5.84,-14.605 1.78,-14.605 ; 1.78,-14.605 3.133,-14.605 ; 1.78,-13.335 1.78,-12.065 ; 1.78,-13.335 3.133,-13.335 ; 1.78,-13.335 1.78,-12.065 ; 1.78,-13.335 5.84,-13.335 5.84,-12.065 1.78,-12.065 ; 1.78,-12.065 3.133,-12.065 ; 1.78,-10.795 1.78,-9.525 ; 1.78,-10.795 3.133,-10.795 ; 1.78,-10.795 1.78,-9.525 ; 1.78,-10.795 5.84,-10.795 5.84,-9.525 1.78,-9.525 ; 1.78,-9.525 3.133,-9.525 ; 1.78,-8.255 1.78,-6.985 ; 1.78,-8.255 3.133,-8.255 ; 1.78,-8.255 1.78,-6.985 ; 1.78,-8.255 5.84,-8.255 5.84,-6.985 1.78,-6.985 ; 1.78,-6.985 3.133,-6.985 ; 1.78,-5.715 1.78,-4.445 ; 1.78,-5.715 3.133,-5.715 ; 1.78,-5.715 1.78,-4.445 ; 1.78,-5.715 5.84,-5.715 5.84,-4.445 1.78,-4.445 ; 1.78,-4.445 3.133,-4.445 ; 1.78,-3.175 1.78,-1.905 ; 1.78,-3.175 3.133,-3.175 ; 1.78,-3.175 1.78,-1.905 ; 1.78,-3.175 5.84,-3.175 5.84,-1.905 1.78,-1.905 ; 1.78,-1.905 3.133,-1.905 ; 1.78,-0.635 1.78,0.635 ; 1.78,-0.635 3.133,-0.635 ; 1.78,-0.635 1.78,0.635 ; 1.78,-0.635 5.84,-0.635 5.84,0.635 1.78,0.635 ; 1.78,0.635 3.133,0.635 ; 3.133,-20.955 3.133,-19.685 ; 3.133,-20.955 3.133,-19.685 ; 3.133,-18.415 3.133,-17.145 ; 3.133,-18.415 3.133,-17.145 ; 3.133,-15.875 3.133,-14.605 ; 3.133,-15.875 3.133,-14.605 ; 3.133,-13.335 3.133,-12.065 ; 3.133,-13.335 3.133,-12.065 ; 3.133,-10.795 3.133,-9.525 ; 3.133,-10.795 3.133,-9.525 ; 3.133,-8.255 3.133,-6.985 ; 3.133,-8.255 3.133,-6.985 ; 3.133,-5.715 3.133,-4.445 ; 3.133,-5.715 3.133,-4.445 ; 3.133,-3.175 3.133,-1.905 ; 3.133,-3.175 3.133,-1.905 ; 3.133,-0.635 3.133,0.635 ; 3.133,-0.635 3.133,0.635 ; -1.14,-22.74 -1.14,2.42 8.76,2.42 8.76,-22.74 -1.14,-22.74
F.Fab:
  lines w0.254: 1.78,-20.955 1.78,-19.685 ; 1.78,-20.955 3.133,-20.955 ; 1.78,-20.955 1.78,-19.685 ; 1.78,-20.955 5.84,-20.955 5.84,-19.685 1.78,-19.685 ; 1.78,-19.685 3.133,-19.685 ; 1.78,-18.415 1.78,-17.145 ; 1.78,-18.415 3.133,-18.415 ; 1.78,-18.415 1.78,-17.145 ; 1.78,-18.415 5.84,-18.415 5.84,-17.145 1.78,-17.145 ; 1.78,-17.145 3.133,-17.145 ; 1.78,-15.875 1.78,-14.605 ; 1.78,-15.875 3.133,-15.875 ; 1.78,-15.875 1.78,-14.605 ; 1.78,-15.875 5.84,-15.875 5.84,-14.605 1.78,-14.605 ; 1.78,-14.605 3.133,-14.605 ; 1.78,-13.335 1.78,-12.065 ; 1.78,-13.335 3.133,-13.335 ; 1.78,-13.335 1.78,-12.065 ; 1.78,-13.335 5.84,-13.335 5.84,-12.065 1.78,-12.065 ; 1.78,-12.065 3.133,-12.065 ; 1.78,-10.795 1.78,-9.525 ; 1.78,-10.795 3.133,-10.795 ; 1.78,-10.795 1.78,-9.525 ; 1.78,-10.795 5.84,-10.795 5.84,-9.525 1.78,-9.525 ; 1.78,-9.525 3.133,-9.525 ; 1.78,-8.255 1.78,-6.985 ; 1.78,-8.255 3.133,-8.255 ; 1.78,-8.255 1.78,-6.985 ; 1.78,-8.255 5.84,-8.255 5.84,-6.985 1.78,-6.985 ; 1.78,-6.985 3.133,-6.985 ; 1.78,-5.715 1.78,-4.445 ; 1.78,-5.715 3.133,-5.715 ; 1.78,-5.715 1.78,-4.445 ; 1.78,-5.715 5.84,-5.715 5.84,-4.445 1.78,-4.445 ; 1.78,-4.445 3.133,-4.445 ; 1.78,-3.175 1.78,-1.905 ; 1.78,-3.175 3.133,-3.175 ; 1.78,-3.175 1.78,-1.905 ; 1.78,-3.175 5.84,-3.175 5.84,-1.905 1.78,-1.905 ; 1.78,-1.905 3.133,-1.905 ; 1.78,-0.635 1.78,0.635 ; 1.78,-0.635 3.133,-0.635 ; 1.78,-0.635 1.78,0.635 ; 1.78,-0.635 5.84,-0.635 5.84,0.635 1.78,0.635 ; 1.78,0.635 3.133,0.635 ; 3.133,-20.955 3.133,-19.685 ; 3.133,-20.955 3.133,-19.685 ; 3.133,-18.415 3.133,-17.145 ; 3.133,-18.415 3.133,-17.145 ; 3.133,-15.875 3.133,-14.605 ; 3.133,-15.875 3.133,-14.605 ; 3.133,-13.335 3.133,-12.065 ; 3.133,-13.335 3.133,-12.065 ; 3.133,-10.795 3.133,-9.525 ; 3.133,-10.795 3.133,-9.525 ; 3.133,-8.255 3.133,-6.985 ; 3.133,-8.255 3.133,-6.985 ; 3.133,-5.715 3.133,-4.445 ; 3.133,-5.715 3.133,-4.445 ; 3.133,-3.175 3.133,-1.905 ; 3.133,-3.175 3.133,-1.905 ; 3.133,-0.635 3.133,0.635 ; 3.133,-0.635 3.133,0.635 ; -1.08,-22.68 -1.08,1.36 -0.08,2.36 8.7,2.36 8.7,-22.68 -1.08,-22.68
  text "'.Designator'" at 7.942,-13.397 h0.8
  text "on" at 4.7,1.111 h0.8
F.CrtYd:
  lines w0.254: -1.33,-22.99 -1.33,2.67 8.95,2.67 8.95,-22.99 -1.33,-22.99

## SW_DIP_SPSTx10_Piano_10.8x26.96mm_W7.62mm_P2.54mm [mm]
pads (20):
  rrect16% 1.6x1.6 hole 0.8: 1(0,0)
  round 1.6 hole 0.8: 2(0,-2.54) 3(0,-5.08) 4(0,-7.62) 5(0,-10.16) 6(0,-12.7) 7(0,-15.24) 8(0,-17.78) 9(0,-20.32) 10(0,-22.86) 11(7.62,-22.86) 12(7.62,-20.32) 13(7.62,-17.78) 14(7.62,-15.24) 15(7.62,-12.7) 16(7.62,-10.16) 17(7.62,-7.62) 18(7.62,-5.08) 19(7.62,-2.54) 20(7.62,0)
F.SilkS:
  lines w0.254: -1.89,0.967 -1.89,2.35 -0.507,2.35 ; -3.51,-23.67 -3.51,-22.05 -1.65,-22.05 -1.65,-23.67 -3.51,-23.67 ; -3.51,-21.13 -3.51,-19.51 -1.65,-19.51 -1.65,-21.13 -3.51,-21.13 ; -3.51,-18.59 -3.51,-16.97 -1.65,-16.97 -1.65,-18.59 -3.51,-18.59 ; -3.51,-16.05 -3.51,-14.43 -1.65,-14.43 -1.65,-16.05 -3.51,-16.05 ; -3.51,-13.51 -3.51,-11.89 -1.65,-11.89 -1.65,-13.51 -3.51,-13.51 ; -3.51,-10.97 -3.51,-9.35 -1.65,-9.35 -1.65,-10.97 -3.51,-10.97 ; -3.51,-8.43 -3.51,-6.81 -1.65,-6.81 -1.65,-8.43 -3.51,-8.43 ; -3.51,-5.89 -3.51,-4.27 -1.65,-4.27 -1.65,-5.89 -3.51,-5.89 ; -3.51,-3.35 -3.51,-1.73 -1.65,-1.73 -1.65,-3.35 -3.51,-3.35 ; -3.51,-0.81 -3.51,0.81 -1.65,0.81 -1.65,-0.81 -3.51,-0.81 ; -1.65,-24.97 -1.65,2.11 9.27,2.11 9.27,-24.97 -1.65,-24.97
F.Fab:
  lines w0.254: -3.39,-23.61 -3.39,-22.11 -1.59,-22.11 -1.59,-23.61 -3.39,-23.61 ; -3.39,-21.07 -3.39,-19.57 -1.59,-19.57 -1.59,-21.07 -3.39,-21.07 ; -3.39,-18.53 -3.39,-17.03 -1.59,-17.03 -1.59,-18.53 -3.39,-18.53 ; -3.39,-15.99 -3.39,-14.49 -1.59,-14.49 -1.59,-15.99 -3.39,-15.99 ; -3.39,-13.45 -3.39,-11.95 -1.59,-11.95 -1.59,-13.45 -3.39,-13.45 ; -3.39,-10.91 -3.39,-9.41 -1.59,-9.41 -1.59,-10.91 -3.39,-10.91 ; -3.39,-8.37 -3.39,-6.87 -1.59,-6.87 -1.59,-8.37 -3.39,-8.37 ; -3.39,-5.83 -3.39,-4.33 -1.59,-4.33 -1.59,-5.83 -3.39,-5.83 ; -3.39,-3.29 -3.39,-1.79 -1.59,-1.79 -1.59,-3.29 -3.39,-3.29 ; -3.39,-0.75 -3.39,0.75 -1.59,0.75 -1.59,-0.75 -3.39,-0.75 ; -1.59,-24.91 -1.59,1.05 -0.59,2.05 9.21,2.05 9.21,-24.91 -1.59,-24.91
  text "'.Designator'" at 0.573,-12.102 h0.8
F.CrtYd:
  lines w0.254: -3.65,-25.22 -3.65,2.37 9.47,2.37 9.47,-25.22 -3.65,-25.22

## SW_DIP_SPSTx10_Piano_CTS_Series194-10MSTN_W7.62mm_P2.54mm [mm]
pads (20):
  rrect16% 1.6x1.6 hole 0.8: 1(0,0)
  round 1.6 hole 0.8: 2(0,-2.54) 3(0,-5.08) 4(0,-7.62) 5(0,-10.16) 6(0,-12.7) 7(0,-15.24) 8(0,-17.78) 9(0,-20.32) 10(0,-22.86) 11(7.62,-22.86) 12(7.62,-20.32) 13(7.62,-17.78) 14(7.62,-15.24) 15(7.62,-12.7) 16(7.62,-10.16) 17(7.62,-7.62) 18(7.62,-5.08) 19(7.62,-2.54) 20(7.62,0)
F.SilkS:
  lines w0.254: -1.38,1.277 -1.38,2.66 0.003,2.66 ; -2.34,-23.68 -2.34,-22.04 -1.14,-22.04 -1.14,-23.68 -2.34,-23.68 ; -2.34,-21.14 -2.34,-19.5 -1.14,-19.5 -1.14,-21.14 -2.34,-21.14 ; -2.34,-18.6 -2.34,-16.96 -1.14,-16.96 -1.14,-18.6 -2.34,-18.6 ; -2.34,-16.06 -2.34,-14.42 -1.14,-14.42 -1.14,-16.06 -2.34,-16.06 ; -2.34,-13.52 -2.34,-11.88 -1.14,-11.88 -1.14,-13.52 -2.34,-13.52 ; -2.34,-10.98 -2.34,-9.34 -1.14,-9.34 -1.14,-10.98 -2.34,-10.98 ; -2.34,-8.44 -2.34,-6.8 -1.14,-6.8 -1.14,-8.44 -2.34,-8.44 ; -2.34,-5.9 -2.34,-4.26 -1.14,-4.26 -1.14,-5.9 -2.34,-5.9 ; -2.34,-3.36 -2.34,-1.72 -1.14,-1.72 -1.14,-3.36 -2.34,-3.36 ; -2.34,-0.82 -2.34,0.82 -1.14,0.82 -1.14,-0.82 -2.34,-0.82 ; -1.14,-25.28 -1.14,2.42 8.76,2.42 8.76,-25.28 -1.14,-25.28
F.Fab:
  lines w0.254: -2.22,-23.62 -2.22,-22.1 -1.08,-22.1 -1.08,-23.62 -2.22,-23.62 ; -2.22,-21.08 -2.22,-19.56 -1.08,-19.56 -1.08,-21.08 -2.22,-21.08 ; -2.22,-18.54 -2.22,-17.02 -1.08,-17.02 -1.08,-18.54 -2.22,-18.54 ; -2.22,-16 -2.22,-14.48 -1.08,-14.48 -1.08,-16 -2.22,-16 ; -2.22,-13.46 -2.22,-11.94 -1.08,-11.94 -1.08,-13.46 -2.22,-13.46 ; -2.22,-10.92 -2.22,-9.4 -1.08,-9.4 -1.08,-10.92 -2.22,-10.92 ; -2.22,-8.38 -2.22,-6.86 -1.08,-6.86 -1.08,-8.38 -2.22,-8.38 ; -2.22,-5.84 -2.22,-4.32 -1.08,-4.32 -1.08,-5.84 -2.22,-5.84 ; -2.22,-3.3 -2.22,-1.78 -1.08,-1.78 -1.08,-3.3 -2.22,-3.3 ; -2.22,-0.76 -2.22,0.76 -1.08,0.76 -1.08,-0.76 -2.22,-0.76 ; -1.08,-25.22 -1.08,1.36 -0.08,2.36 8.7,2.36 8.7,-25.22 -1.08,-25.22
  text "'.Designator'" at 0.573,-12.102 h0.8
F.CrtYd:
  lines w0.254: -2.47,-25.53 -2.47,2.67 8.95,2.67 8.95,-25.53 -2.47,-25.53

## SW_DIP_SPSTx10_Slide_6.7x26.96mm_W7.62mm_P2.54mm_LowProfile [mm]
pads (20):
  rrect16% 1.6x1.6 hole 0.8: 1(0,0)
  round 1.6 hole 0.8: 2(0,-2.54) 3(0,-5.08) 4(0,-7.62) 5(0,-10.16) 6(0,-12.7) 7(0,-15.24) 8(0,-17.78) 9(0,-20.32) 10(0,-22.86) 11(7.62,-22.86) 12(7.62,-20.32) 13(7.62,-17.78) 14(7.62,-15.24) 15(7.62,-12.7) 16(7.62,-10.16) 17(7.62,-7.62) 18(7.62,-5.08) 19(7.62,-2.54) 20(7.62,0)
F.SilkS:
  lines w0.254: 0.16,1.04 0.16,2.35 1.543,2.35 ; 0.4,-23.82 0.4,-24.97 7.22,-24.97 7.22,-23.82 ; 0.4,-21.9 0.4,-21.28 ; 0.4,-19.36 0.4,-18.74 ; 0.4,-16.82 0.4,-16.2 ; 0.4,-14.28 0.4,-13.66 ; 0.4,-11.74 0.4,-11.12 ; 0.4,-9.2 0.4,-8.58 ; 0.4,-6.66 0.4,-6.04 ; 0.4,-4.12 0.4,-3.5 ; 0.4,-1.58 0.4,-1.04 ; 0.4,1.04 0.4,2.11 7.22,2.11 7.22,0.96 ; 7.22,-21.9 7.22,-21.28 ; 7.22,-19.36 7.22,-18.74 ; 7.22,-16.82 7.22,-16.2 ; 7.22,-14.28 7.22,-13.66 ; 7.22,-11.74 7.22,-11.12 ; 7.22,-9.2 7.22,-8.58 ; 7.22,-6.66 7.22,-6.04 ; 7.22,-4.12 7.22,-3.5 ; 7.22,-1.58 7.22,-0.96 ; 2,-23.495 2,-22.225 ; 2,-23.495 3.207,-23.495 ; 2,-23.495 2,-22.225 ; 2,-23.495 5.62,-23.495 5.62,-22.225 2,-22.225 ; 2,-22.225 3.207,-22.225 ; 2,-20.955 2,-19.685 ; 2,-20.955 3.207,-20.955 ; 2,-20.955 2,-19.685 ; 2,-20.955 5.62,-20.955 5.62,-19.685 2,-19.685 ; 2,-19.685 3.207,-19.685 ; 2,-18.415 2,-17.145 ; 2,-18.415 3.207,-18.415 ; 2,-18.415 2,-17.145 ; 2,-18.415 5.62,-18.415 5.62,-17.145 2,-17.145 ; 2,-17.145 3.207,-17.145 ; 2,-15.875 2,-14.605 ; 2,-15.875 3.207,-15.875 ; 2,-15.875 2,-14.605 ; 2,-15.875 5.62,-15.875 5.62,-14.605 2,-14.605 ; 2,-14.605 3.207,-14.605 ; 2,-13.335 2,-12.065 ; 2,-13.335 3.207,-13.335 ; 2,-13.335 2,-12.065 ; 2,-13.335 5.62,-13.335 5.62,-12.065 2,-12.065 ; 2,-12.065 3.207,-12.065 ; 2,-10.795 2,-9.525 ; 2,-10.795 3.207,-10.795 ; 2,-10.795 2,-9.525 ; 2,-10.795 5.62,-10.795 5.62,-9.525 2,-9.525 ; 2,-9.525 3.207,-9.525 ; 2,-8.255 2,-6.985 ; 2,-8.255 3.207,-8.255 ; 2,-8.255 2,-6.985 ; 2,-8.255 5.62,-8.255 5.62,-6.985 2,-6.985 ; 2,-6.985 3.207,-6.985 ; 2,-5.715 2,-4.445 ; 2,-5.715 3.207,-5.715 ; 2,-5.715 2,-4.445 ; 2,-5.715 5.62,-5.715 5.62,-4.445 2,-4.445 ; 2,-4.445 3.207,-4.445 ; 2,-3.175 2,-1.905 ; 2,-3.175 3.207,-3.175 ; 2,-3.175 2,-1.905 ; 2,-3.175 5.62,-3.175 5.62,-1.905 2,-1.905 ; 2,-1.905 3.207,-1.905 ; 2,-0.635 2,0.635 ; 2,-0.635 3.207,-0.635 ; 2,-0.635 2,0.635 ; 2,-0.635 5.62,-0.635 5.62,0.635 2,0.635 ; 2,0.635 3.207,0.635 ; 3.207,-23.495 3.207,-22.225 ; 3.207,-23.495 3.207,-22.225 ; 3.207,-20.955 3.207,-19.685 ; 3.207,-20.955 3.207,-19.685 ; 3.207,-18.415 3.207,-17.145 ; 3.207,-18.415 3.207,-17.145 ; 3.207,-15.875 3.207,-14.605 ; 3.207,-15.875 3.207,-14.605 ; 3.207,-13.335 3.207,-12.065 ; 3.207,-13.335 3.207,-12.065 ; 3.207,-10.795 3.207,-9.525 ; 3.207,-10.795 3.207,-9.525 ; 3.207,-8.255 3.207,-6.985 ; 3.207,-8.255 3.207,-6.985 ; 3.207,-5.715 3.207,-4.445 ; 3.207,-5.715 3.207,-4.445 ; 3.207,-3.175 3.207,-1.905 ; 3.207,-3.175 3.207,-1.905 ; 3.207,-0.635 3.207,0.635 ; 3.207,-0.635 3.207,0.635
F.Fab:
  lines w0.254: 2,-23.495 2,-22.225 ; 2,-23.495 3.207,-23.495 ; 2,-23.495 2,-22.225 ; 2,-23.495 5.62,-23.495 5.62,-22.225 2,-22.225 ; 2,-22.225 3.207,-22.225 ; 2,-20.955 2,-19.685 ; 2,-20.955 3.207,-20.955 ; 2,-20.955 2,-19.685 ; 2,-20.955 5.62,-20.955 5.62,-19.685 2,-19.685 ; 2,-19.685 3.207,-19.685 ; 2,-18.415 2,-17.145 ; 2,-18.415 3.207,-18.415 ; 2,-18.415 2,-17.145 ; 2,-18.415 5.62,-18.415 5.62,-17.145 2,-17.145 ; 2,-17.145 3.207,-17.145 ; 2,-15.875 2,-14.605 ; 2,-15.875 3.207,-15.875 ; 2,-15.875 2,-14.605 ; 2,-15.875 5.62,-15.875 5.62,-14.605 2,-14.605 ; 2,-14.605 3.207,-14.605 ; 2,-13.335 2,-12.065 ; 2,-13.335 3.207,-13.335 ; 2,-13.335 2,-12.065 ; 2,-13.335 5.62,-13.335 5.62,-12.065 2,-12.065 ; 2,-12.065 3.207,-12.065 ; 2,-10.795 2,-9.525 ; 2,-10.795 3.207,-10.795 ; 2,-10.795 2,-9.525 ; 2,-10.795 5.62,-10.795 5.62,-9.525 2,-9.525 ; 2,-9.525 3.207,-9.525 ; 2,-8.255 2,-6.985 ; 2,-8.255 3.207,-8.255 ; 2,-8.255 2,-6.985 ; 2,-8.255 5.62,-8.255 5.62,-6.985 2,-6.985 ; 2,-6.985 3.207,-6.985 ; 2,-5.715 2,-4.445 ; 2,-5.715 3.207,-5.715 ; 2,-5.715 2,-4.445 ; 2,-5.715 5.62,-5.715 5.62,-4.445 2,-4.445 ; 2,-4.445 3.207,-4.445 ; 2,-3.175 2,-1.905 ; 2,-3.175 3.207,-3.175 ; 2,-3.175 2,-1.905 ; 2,-3.175 5.62,-3.175 5.62,-1.905 2,-1.905 ; 2,-1.905 3.207,-1.905 ; 2,-0.635 2,0.635 ; 2,-0.635 3.207,-0.635 ; 2,-0.635 2,0.635 ; 2,-0.635 5.62,-0.635 5.62,0.635 2,0.635 ; 2,0.635 3.207,0.635 ; 3.207,-23.495 3.207,-22.225 ; 3.207,-23.495 3.207,-22.225 ; 3.207,-20.955 3.207,-19.685 ; 3.207,-20.955 3.207,-19.685 ; 3.207,-18.415 3.207,-17.145 ; 3.207,-18.415 3.207,-17.145 ; 3.207,-15.875 3.207,-14.605 ; 3.207,-15.875 3.207,-14.605 ; 3.207,-13.335 3.207,-12.065 ; 3.207,-13.335 3.207,-12.065 ; 3.207,-10.795 3.207,-9.525 ; 3.207,-10.795 3.207,-9.525 ; 3.207,-8.255 3.207,-6.985 ; 3.207,-8.255 3.207,-6.985 ; 3.207,-5.715 3.207,-4.445 ; 3.207,-5.715 3.207,-4.445 ; 3.207,-3.175 3.207,-1.905 ; 3.207,-3.175 3.207,-1.905 ; 3.207,-0.635 3.207,0.635 ; 3.207,-0.635 3.207,0.635 ; 0.46,-24.91 0.46,1.05 1.46,2.05 7.16,2.05 7.16,-24.91 0.46,-24.91
  text "'.Designator'" at 7.062,-14.667 h0.8
  text "on" at 3.82,0.956 h0.8
F.CrtYd:
  lines w0.254: -1.06,-25.22 -1.06,2.37 8.67,2.37 8.67,-25.22 -1.06,-25.22

## SW_DIP_SPSTx10_Slide_9.78x27.58mm_W7.62mm_P2.54mm [mm]
pads (20):
  rrect16% 1.6x1.6 hole 0.8: 1(0,0)
  round 1.6 hole 0.8: 2(0,-2.54) 3(0,-5.08) 4(0,-7.62) 5(0,-10.16) 6(0,-12.7) 7(0,-15.24) 8(0,-17.78) 9(0,-20.32) 10(0,-22.86) 11(7.62,-22.86) 12(7.62,-20.32) 13(7.62,-17.78) 14(7.62,-15.24) 15(7.62,-12.7) 16(7.62,-10.16) 17(7.62,-7.62) 18(7.62,-5.08) 19(7.62,-2.54) 20(7.62,0)
F.SilkS:
  lines w0.254: -1.38,1.277 -1.38,2.66 0.003,2.66 ; 1.78,-23.495 1.78,-22.225 ; 1.78,-23.495 3.133,-23.495 ; 1.78,-23.495 1.78,-22.225 ; 1.78,-23.495 5.84,-23.495 5.84,-22.225 1.78,-22.225 ; 1.78,-22.225 3.133,-22.225 ; 1.78,-20.955 1.78,-19.685 ; 1.78,-20.955 3.133,-20.955 ; 1.78,-20.955 1.78,-19.685 ; 1.78,-20.955 5.84,-20.955 5.84,-19.685 1.78,-19.685 ; 1.78,-19.685 3.133,-19.685 ; 1.78,-18.415 1.78,-17.145 ; 1.78,-18.415 3.133,-18.415 ; 1.78,-18.415 1.78,-17.145 ; 1.78,-18.415 5.84,-18.415 5.84,-17.145 1.78,-17.145 ; 1.78,-17.145 3.133,-17.145 ; 1.78,-15.875 1.78,-14.605 ; 1.78,-15.875 3.133,-15.875 ; 1.78,-15.875 1.78,-14.605 ; 1.78,-15.875 5.84,-15.875 5.84,-14.605 1.78,-14.605 ; 1.78,-14.605 3.133,-14.605 ; 1.78,-13.335 1.78,-12.065 ; 1.78,-13.335 3.133,-13.335 ; 1.78,-13.335 1.78,-12.065 ; 1.78,-13.335 5.84,-13.335 5.84,-12.065 1.78,-12.065 ; 1.78,-12.065 3.133,-12.065 ; 1.78,-10.795 1.78,-9.525 ; 1.78,-10.795 3.133,-10.795 ; 1.78,-10.795 1.78,-9.525 ; 1.78,-10.795 5.84,-10.795 5.84,-9.525 1.78,-9.525 ; 1.78,-9.525 3.133,-9.525 ; 1.78,-8.255 1.78,-6.985 ; 1.78,-8.255 3.133,-8.255 ; 1.78,-8.255 1.78,-6.985 ; 1.78,-8.255 5.84,-8.255 5.84,-6.985 1.78,-6.985 ; 1.78,-6.985 3.133,-6.985 ; 1.78,-5.715 1.78,-4.445 ; 1.78,-5.715 3.133,-5.715 ; 1.78,-5.715 1.78,-4.445 ; 1.78,-5.715 5.84,-5.715 5.84,-4.445 1.78,-4.445 ; 1.78,-4.445 3.133,-4.445 ; 1.78,-3.175 1.78,-1.905 ; 1.78,-3.175 3.133,-3.175 ; 1.78,-3.175 1.78,-1.905 ; 1.78,-3.175 5.84,-3.175 5.84,-1.905 1.78,-1.905 ; 1.78,-1.905 3.133,-1.905 ; 1.78,-0.635 1.78,0.635 ; 1.78,-0.635 3.133,-0.635 ; 1.78,-0.635 1.78,0.635 ; 1.78,-0.635 5.84,-0.635 5.84,0.635 1.78,0.635 ; 1.78,0.635 3.133,0.635 ; 3.133,-23.495 3.133,-22.225 ; 3.133,-23.495 3.133,-22.225 ; 3.133,-20.955 3.133,-19.685 ; 3.133,-20.955 3.133,-19.685 ; 3.133,-18.415 3.133,-17.145 ; 3.133,-18.415 3.133,-17.145 ; 3.133,-15.875 3.133,-14.605 ; 3.133,-15.875 3.133,-14.605 ; 3.133,-13.335 3.133,-12.065 ; 3.133,-13.335 3.133,-12.065 ; 3.133,-10.795 3.133,-9.525 ; 3.133,-10.795 3.133,-9.525 ; 3.133,-8.255 3.133,-6.985 ; 3.133,-8.255 3.133,-6.985 ; 3.133,-5.715 3.133,-4.445 ; 3.133,-5.715 3.133,-4.445 ; 3.133,-3.175 3.133,-1.905 ; 3.133,-3.175 3.133,-1.905 ; 3.133,-0.635 3.133,0.635 ; 3.133,-0.635 3.133,0.635 ; -1.14,-25.28 -1.14,2.42 8.76,2.42 8.76,-25.28 -1.14,-25.28
F.Fab:
  lines w0.254: 1.78,-23.495 1.78,-22.225 ; 1.78,-23.495 3.133,-23.495 ; 1.78,-23.495 1.78,-22.225 ; 1.78,-23.495 5.84,-23.495 5.84,-22.225 1.78,-22.225 ; 1.78,-22.225 3.133,-22.225 ; 1.78,-20.955 1.78,-19.685 ; 1.78,-20.955 3.133,-20.955 ; 1.78,-20.955 1.78,-19.685 ; 1.78,-20.955 5.84,-20.955 5.84,-19.685 1.78,-19.685 ; 1.78,-19.685 3.133,-19.685 ; 1.78,-18.415 1.78,-17.145 ; 1.78,-18.415 3.133,-18.415 ; 1.78,-18.415 1.78,-17.145 ; 1.78,-18.415 5.84,-18.415 5.84,-17.145 1.78,-17.145 ; 1.78,-17.145 3.133,-17.145 ; 1.78,-15.875 1.78,-14.605 ; 1.78,-15.875 3.133,-15.875 ; 1.78,-15.875 1.78,-14.605 ; 1.78,-15.875 5.84,-15.875 5.84,-14.605 1.78,-14.605 ; 1.78,-14.605 3.133,-14.605 ; 1.78,-13.335 1.78,-12.065 ; 1.78,-13.335 3.133,-13.335 ; 1.78,-13.335 1.78,-12.065 ; 1.78,-13.335 5.84,-13.335 5.84,-12.065 1.78,-12.065 ; 1.78,-12.065 3.133,-12.065 ; 1.78,-10.795 1.78,-9.525 ; 1.78,-10.795 3.133,-10.795 ; 1.78,-10.795 1.78,-9.525 ; 1.78,-10.795 5.84,-10.795 5.84,-9.525 1.78,-9.525 ; 1.78,-9.525 3.133,-9.525 ; 1.78,-8.255 1.78,-6.985 ; 1.78,-8.255 3.133,-8.255 ; 1.78,-8.255 1.78,-6.985 ; 1.78,-8.255 5.84,-8.255 5.84,-6.985 1.78,-6.985 ; 1.78,-6.985 3.133,-6.985 ; 1.78,-5.715 1.78,-4.445 ; 1.78,-5.715 3.133,-5.715 ; 1.78,-5.715 1.78,-4.445 ; 1.78,-5.715 5.84,-5.715 5.84,-4.445 1.78,-4.445 ; 1.78,-4.445 3.133,-4.445 ; 1.78,-3.175 1.78,-1.905 ; 1.78,-3.175 3.133,-3.175 ; 1.78,-3.175 1.78,-1.905 ; 1.78,-3.175 5.84,-3.175 5.84,-1.905 1.78,-1.905 ; 1.78,-1.905 3.133,-1.905 ; 1.78,-0.635 1.78,0.635 ; 1.78,-0.635 3.133,-0.635 ; 1.78,-0.635 1.78,0.635 ; 1.78,-0.635 5.84,-0.635 5.84,0.635 1.78,0.635 ; 1.78,0.635 3.133,0.635 ; 3.133,-23.495 3.133,-22.225 ; 3.133,-23.495 3.133,-22.225 ; 3.133,-20.955 3.133,-19.685 ; 3.133,-20.955 3.133,-19.685 ; 3.133,-18.415 3.133,-17.145 ; 3.133,-18.415 3.133,-17.145 ; 3.133,-15.875 3.133,-14.605 ; 3.133,-15.875 3.133,-14.605 ; 3.133,-13.335 3.133,-12.065 ; 3.133,-13.335 3.133,-12.065 ; 3.133,-10.795 3.133,-9.525 ; 3.133,-10.795 3.133,-9.525 ; 3.133,-8.255 3.133,-6.985 ; 3.133,-8.255 3.133,-6.985 ; 3.133,-5.715 3.133,-4.445 ; 3.133,-5.715 3.133,-4.445 ; 3.133,-3.175 3.133,-1.905 ; 3.133,-3.175 3.133,-1.905 ; 3.133,-0.635 3.133,0.635 ; 3.133,-0.635 3.133,0.635 ; -1.08,-25.22 -1.08,1.36 -0.08,2.36 8.7,2.36 8.7,-25.22 -1.08,-25.22
  text "'.Designator'" at 7.942,-14.667 h0.8
  text "on" at 4.7,1.111 h0.8
F.CrtYd:
  lines w0.254: -1.33,-25.53 -1.33,2.67 8.95,2.67 8.95,-25.53 -1.33,-25.53

## SW_DIP_SPSTx11_Piano_10.8x29.5mm_W7.62mm_P2.54mm [mm]
pads (22):
  rrect16% 1.6x1.6 hole 0.8: 1(0,0)
  round 1.6 hole 0.8: 2(0,-2.54) 3(0,-5.08) 4(0,-7.62) 5(0,-10.16) 6(0,-12.7) 7(0,-15.24) 8(0,-17.78) 9(0,-20.32) 10(0,-22.86) 11(0,-25.4) 12(7.62,-25.4) 13(7.62,-22.86) 14(7.62,-20.32) 15(7.62,-17.78) 16(7.62,-15.24) 17(7.62,-12.7) 18(7.62,-10.16) 19(7.62,-7.62) 20(7.62,-5.08) 21(7.62,-2.54) 22(7.62,0)
F.SilkS:
  lines w0.254: -1.89,0.967 -1.89,2.35 -0.507,2.35 ; -3.51,-26.21 -3.51,-24.59 -1.65,-24.59 -1.65,-26.21 -3.51,-26.21 ; -3.51,-23.67 -3.51,-22.05 -1.65,-22.05 -1.65,-23.67 -3.51,-23.67 ; -3.51,-21.13 -3.51,-19.51 -1.65,-19.51 -1.65,-21.13 -3.51,-21.13 ; -3.51,-18.59 -3.51,-16.97 -1.65,-16.97 -1.65,-18.59 -3.51,-18.59 ; -3.51,-16.05 -3.51,-14.43 -1.65,-14.43 -1.65,-16.05 -3.51,-16.05 ; -3.51,-13.51 -3.51,-11.89 -1.65,-11.89 -1.65,-13.51 -3.51,-13.51 ; -3.51,-10.97 -3.51,-9.35 -1.65,-9.35 -1.65,-10.97 -3.51,-10.97 ; -3.51,-8.43 -3.51,-6.81 -1.65,-6.81 -1.65,-8.43 -3.51,-8.43 ; -3.51,-5.89 -3.51,-4.27 -1.65,-4.27 -1.65,-5.89 -3.51,-5.89 ; -3.51,-3.35 -3.51,-1.73 -1.65,-1.73 -1.65,-3.35 -3.51,-3.35 ; -3.51,-0.81 -3.51,0.81 -1.65,0.81 -1.65,-0.81 -3.51,-0.81 ; -1.65,-27.51 -1.65,2.11 9.27,2.11 9.27,-27.51 -1.65,-27.51
F.Fab:
  lines w0.254: -3.39,-26.15 -3.39,-24.65 -1.59,-24.65 -1.59,-26.15 -3.39,-26.15 ; -3.39,-23.61 -3.39,-22.11 -1.59,-22.11 -1.59,-23.61 -3.39,-23.61 ; -3.39,-21.07 -3.39,-19.57 -1.59,-19.57 -1.59,-21.07 -3.39,-21.07 ; -3.39,-18.53 -3.39,-17.03 -1.59,-17.03 -1.59,-18.53 -3.39,-18.53 ; -3.39,-15.99 -3.39,-14.49 -1.59,-14.49 -1.59,-15.99 -3.39,-15.99 ; -3.39,-13.45 -3.39,-11.95 -1.59,-11.95 -1.59,-13.45 -3.39,-13.45 ; -3.39,-10.91 -3.39,-9.41 -1.59,-9.41 -1.59,-10.91 -3.39,-10.91 ; -3.39,-8.37 -3.39,-6.87 -1.59,-6.87 -1.59,-8.37 -3.39,-8.37 ; -3.39,-5.83 -3.39,-4.33 -1.59,-4.33 -1.59,-5.83 -3.39,-5.83 ; -3.39,-3.29 -3.39,-1.79 -1.59,-1.79 -1.59,-3.29 -3.39,-3.29 ; -3.39,-0.75 -3.39,0.75 -1.59,0.75 -1.59,-0.75 -3.39,-0.75 ; -1.59,-27.45 -1.59,1.05 -0.59,2.05 9.21,2.05 9.21,-27.45 -1.59,-27.45
  text "'.Designator'" at 0.573,-13.372 h0.8
F.CrtYd:
  lines w0.254: -3.65,-27.76 -3.65,2.37 9.47,2.37 9.47,-27.76 -3.65,-27.76

## SW_DIP_SPSTx11_Piano_CTS_Series194-11MSTN_W7.62mm_P2.54mm [mm]
pads (22):
  rrect16% 1.6x1.6 hole 0.8: 1(0,0)
  round 1.6 hole 0.8: 2(0,-2.54) 3(0,-5.08) 4(0,-7.62) 5(0,-10.16) 6(0,-12.7) 7(0,-15.24) 8(0,-17.78) 9(0,-20.32) 10(0,-22.86) 11(0,-25.4) 12(7.62,-25.4) 13(7.62,-22.86) 14(7.62,-20.32) 15(7.62,-17.78) 16(7.62,-15.24) 17(7.62,-12.7) 18(7.62,-10.16) 19(7.62,-7.62) 20(7.62,-5.08) 21(7.62,-2.54) 22(7.62,0)
F.SilkS:
  lines w0.254: -1.38,1.277 -1.38,2.66 0.003,2.66 ; -2.34,-26.22 -2.34,-24.58 -1.14,-24.58 -1.14,-26.22 -2.34,-26.22 ; -2.34,-23.68 -2.34,-22.04 -1.14,-22.04 -1.14,-23.68 -2.34,-23.68 ; -2.34,-21.14 -2.34,-19.5 -1.14,-19.5 -1.14,-21.14 -2.34,-21.14 ; -2.34,-18.6 -2.34,-16.96 -1.14,-16.96 -1.14,-18.6 -2.34,-18.6 ; -2.34,-16.06 -2.34,-14.42 -1.14,-14.42 -1.14,-16.06 -2.34,-16.06 ; -2.34,-13.52 -2.34,-11.88 -1.14,-11.88 -1.14,-13.52 -2.34,-13.52 ; -2.34,-10.98 -2.34,-9.34 -1.14,-9.34 -1.14,-10.98 -2.34,-10.98 ; -2.34,-8.44 -2.34,-6.8 -1.14,-6.8 -1.14,-8.44 -2.34,-8.44 ; -2.34,-5.9 -2.34,-4.26 -1.14,-4.26 -1.14,-5.9 -2.34,-5.9 ; -2.34,-3.36 -2.34,-1.72 -1.14,-1.72 -1.14,-3.36 -2.34,-3.36 ; -2.34,-0.82 -2.34,0.82 -1.14,0.82 -1.14,-0.82 -2.34,-0.82 ; -1.14,-27.82 -1.14,2.42 8.76,2.42 8.76,-27.82 -1.14,-27.82
F.Fab:
  lines w0.254: -2.22,-26.16 -2.22,-24.64 -1.08,-24.64 -1.08,-26.16 -2.22,-26.16 ; -2.22,-23.62 -2.22,-22.1 -1.08,-22.1 -1.08,-23.62 -2.22,-23.62 ; -2.22,-21.08 -2.22,-19.56 -1.08,-19.56 -1.08,-21.08 -2.22,-21.08 ; -2.22,-18.54 -2.22,-17.02 -1.08,-17.02 -1.08,-18.54 -2.22,-18.54 ; -2.22,-16 -2.22,-14.48 -1.08,-14.48 -1.08,-16 -2.22,-16 ; -2.22,-13.46 -2.22,-11.94 -1.08,-11.94 -1.08,-13.46 -2.22,-13.46 ; -2.22,-10.92 -2.22,-9.4 -1.08,-9.4 -1.08,-10.92 -2.22,-10.92 ; -2.22,-8.38 -2.22,-6.86 -1.08,-6.86 -1.08,-8.38 -2.22,-8.38 ; -2.22,-5.84 -2.22,-4.32 -1.08,-4.32 -1.08,-5.84 -2.22,-5.84 ; -2.22,-3.3 -2.22,-1.78 -1.08,-1.78 -1.08,-3.3 -2.22,-3.3 ; -2.22,-0.76 -2.22,0.76 -1.08,0.76 -1.08,-0.76 -2.22,-0.76 ; -1.08,-27.76 -1.08,1.36 -0.08,2.36 8.7,2.36 8.7,-27.76 -1.08,-27.76
  text "'.Designator'" at 0.573,-13.372 h0.8
F.CrtYd:
  lines w0.254: -2.47,-28.07 -2.47,2.67 8.95,2.67 8.95,-28.07 -2.47,-28.07